# Altium footprint library libreriaPcb.PcbLib: 683 footprints (part 24 of 44)
Each footprint in its own frame and in the unit in brackets; x right, y up, seen from the top. Pads: shape width x height; smd on the part's side, far side on the other; paste and mask are expansions set on the pad; w line width, h text height; cw(c..) or ccw(c..) is an arc to the next point about the centre after c.
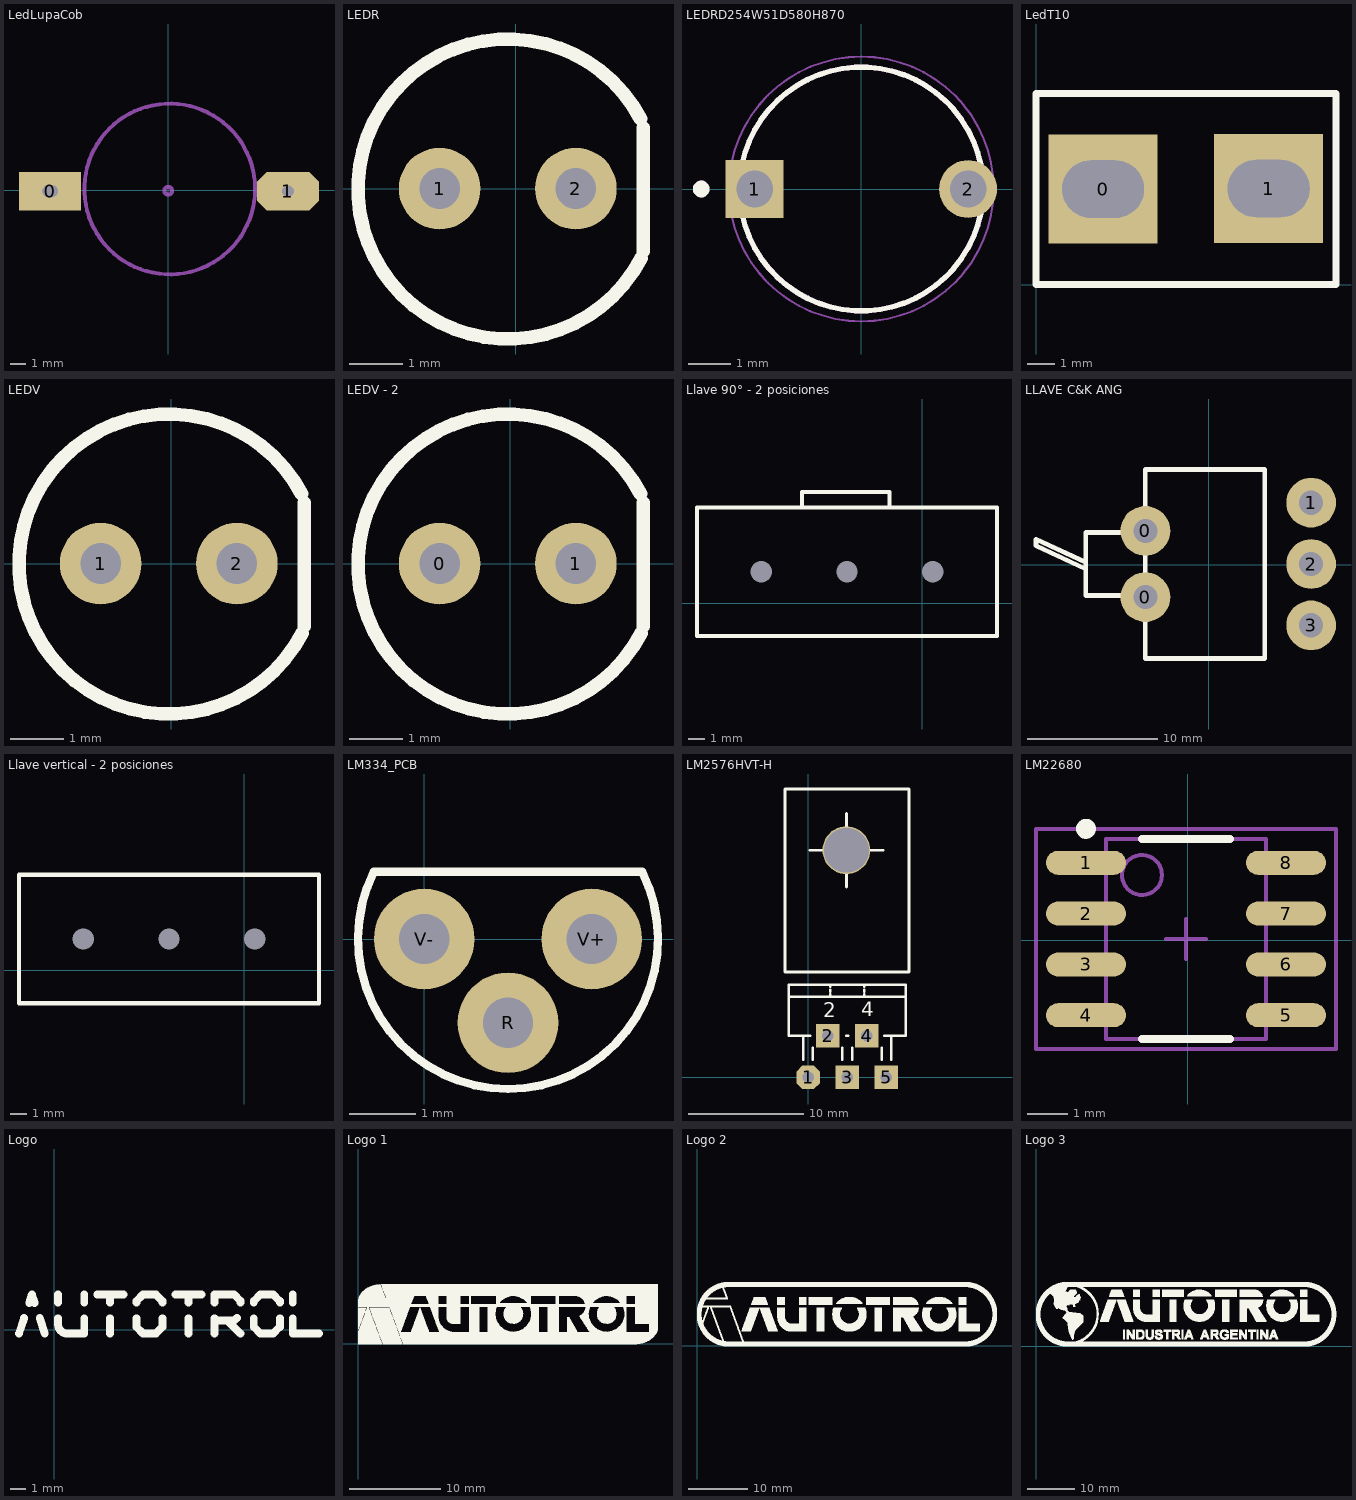
[diagram p23: the footprints below, top view; thin cyan lines are the x and y axes]

## LedLupaCob [mm]
pads (2):
  rect 4x2.5 hole 0.762 slot 1 at 0 deg: 0(-7.62,-0.06)
  oct 4x2.5 hole 0.762: 1(7.7,-0.06)
Mechanical 1:
  circle w0.254: c0.088,0.08 r5.5
  circle w0.254: c-0.008,-0.03 r0.25

## LEDR [mil]
pads (2):
  round 60 hole 30: 1(-56,0) 2(44,0)
Top Overlay:
  lines w10: 91.55,51.35 ccw(c-5.81,-0.26) 91.86,-51.27 ; 93.67,-45.96 93.67,44.8
3D body: height 157.48, standoff 78.74, extent -117,-112 90.61,109
3D body: height 236.22, standoff 39.37, extent -106.34,-100.41 90.42,96.4
3D body: height 78.74, standoff 0, extent -79.62,-23.62 -32.37,23.63
3D body: height 78.74, standoff 0, extent 20.88,-24.12 68.12,23.12

## LEDRD254W51D580H870 [mm]
height 8.7
pads (2):
  rect 1.378x1.378 / inner round 1.378 / far side rect 1.378x1.378 hole 0.87 mask+0.102: 1(-2.54,0)
  round 1.378 hole 0.87 mask+0.102: 2(2.54,0)
Top Overlay:
  circle w0.2: c-3.81,0 r0.1
  circle w0.127: c0,0 r2.9
Mechanical 13:
  circle w0.2: c-3.81,0 r0.1
  circle w0.127: c0,0 r2.9
Mechanical 15:
  circle w0.05: c0,0 r3.15
3D body "step_temp.STEP": height 8.7, standoff -25.4, extent -2.5,-2.9 2.9,2.9

## LedT10 [mm]
pads (2):
  rect 4x4 hole 2.1 slot 3 at 0 deg: 0(2.46,3.5) 1(8.53,3.52)
Top Overlay:
  lines w0.254: 0,0 0,7.01 11,7.01 11,0 0,0

## LEDV [mil]
pads (2):
  round 60 hole 30: 1(-52,0) 2(48,0)
Top Overlay:
  lines w10: 95.55,51.35 ccw(c-1.81,-0.26) 95.86,-51.27 ; 97.67,-45.96 97.67,44.8
3D body: height 157.48, standoff 78.74, extent -113,-112 94.61,109
3D body: height 236.22, standoff 39.37, extent -102.34,-100.41 94.42,96.4
3D body: height 78.74, standoff 0, extent -75.62,-23.62 -28.37,23.63
3D body: height 78.74, standoff 0, extent 24.88,-24.12 72.12,23.12

## LEDV - 2 [mil]
pads (2):
  round 60 hole 30: 0(-52,0) 1(48,0)
Top Overlay:
  lines w10: 95.55,51.35 ccw(c-1.81,-0.26) 95.86,-51.27 ; 97.67,-45.96 97.67,44.8
3D body: height 157.48, standoff 78.74, extent -113,-112 94.61,109
3D body: height 236.22, standoff 39.37, extent -102.34,-100.41 94.42,96.4
3D body: height 78.74, standoff 0, extent -75.62,-23.62 -28.37,23.63
3D body: height 78.74, standoff 0, extent 24.88,-24.12 72.12,23.12

## Llave 90° - 2 posiciones [mil]
pads (3):
  oct 0x0 / inner round 0 / far side oct 110x110 hole 50: 1(-376,73)
  round 0 / inner round 0 / far side round 110 hole 50: 2(-176,73) 3(24,73)
Top Overlay:
  lines w10: -281,223 -281,259 -77,259 -77,223 ; -526,-77 -526,223 174,223 174,-77 -526,-77
3D body: height 472.44, standoff 0, extent -523,-78 174,224
3D body: height 354.33, standoff 118.11, extent -495,257 134,382
3D body: height 314.96, standoff 157.48, extent -282,224 -76,257

## LLAVE C&K ANG [mil]
pads (5):
  round 150 hole 73: 0(-190.78,-97.98) 0(-190.78,102.02) 1(309.22,187.02) 2(309.22,2.02) 3(309.22,-182.98)
Top Overlay:
  lines w14: -370.78,-12.98 -520.78,57.02 -520.78,77.02 -370.78,7.02 ; -190.78,-92.98 -370.78,-92.98 -370.78,97.02 -190.78,97.02 ; -190.78,-282.98 169.22,-282.98 169.22,287.02 -190.78,287.02 -190.78,-282.98
3D body: height 239.21, standoff 0, extent -372.87,-119.52 -18.54,120.17
3D body: height 279.53, standoff 267.72, extent -197.67,-193.34 129.1,196.43
3D body: height 19.68, standoff 0, extent -197.67,-193.34 129.1,196.43
3D body: height 275.59, standoff 7.87, extent -197.67,-193.34 -189.8,196.43
3D body: height 166.95, standoff 72.83, extent -578.89,-105.58 -176.68,117.69
3D body: height 137.8, standoff -39.37, extent 289.58,-202.51 328.87,-163.29
3D body: height 137.8, standoff -39.37, extent 289.57,-17.51 328.86,21.71
3D body: height 137.8, standoff -39.37, extent 289.58,167.49 328.87,206.71
3D body: height 139.61, standoff 100.39, extent 151.74,-202.63 309.22,-163.34
3D body: height 139.61, standoff 100.39, extent 151.74,-17.63 309.22,21.66
3D body: height 139.61, standoff 100.39, extent 151.74,167.37 309.22,206.66
3D body: height 39.37, standoff -39.37, extent -210.42,-117.51 -171.13,-78.29
3D body: height 39.37, standoff -39.37, extent -210.42,82.49 -171.13,121.71
3D body: height 275.59, standoff 7.87, extent -185.86,-283.89 168.47,288.94

## Llave vertical - 2 posiciones [mil]
pads (3):
  oct 0x0 / inner round 0 / far side oct 110x110 hole 50: 1(-376,73)
  round 0 / inner round 0 / far side round 110 hole 50: 2(-176,73) 3(24,73)
Top Overlay:
  lines w10: -526,-77 -526,223 174,223 174,-77 -526,-77
3D body: height 472.44, standoff 0, extent -523,-78 174,224
3D body: height 787.4, standoff 393.7, extent -324.42,-76.3 -26.39,222.32
3D body: height 1176.95, standoff 642.36, extent -249.41,-5.58 73.04,151.59

## LM334_PCB [mil]
pads (3):
  round 60 / inner round 0 / far side round 60 hole 30 paste+0: R(50,-50) V+(100,0) V-(0,0)
Top Overlay:
  lines w5: -30,40 ccw(c50,0) 130,40 -30,40

## LM2576HVT-H [mil]
pads (6):
  oct 80x80 hole 40: 1(0,0)
  rect 80x80 hole 40: 2(66.67,141.67) 3(133.33,0) 4(200,141.67) 5(266.67,0)
  round 163 hole 153: ""(130.33,775.83)
Top Overlay:
  lines w7.87: -66.67,275 333.33,275 ; -16.67,59.05 -16.67,141.67 ; 7.87,141.67 -66.67,141.67 -66.67,316.67 333.33,316.67 333.33,141.67 258.79,141.67 ; 15.75,59.05 15.75,101.5 ; 75,275 75,283.33 ; 75,291.67 75,300 ; 75,308.33 75,316.67 ; 116.67,59.05 116.67,101.5 ; 129.4,141.67 137.27,141.67 ; 150,59.05 150,101.5 ; 191.67,275 191.67,283.33 ; 191.67,291.67 191.67,300 ; 191.67,308.33 191.67,316.67 ; 251.21,59.05 251.21,101.5 ; 283.33,59.05 283.33,141.67
  lines w10: 5.33,775.83 55.33,775.83 ; 130.33,650.83 130.33,700.83 ; 130.33,850.83 130.33,900.83 ; 205.33,775.83 255.33,775.83 ; -80,360 345,360 345,985 -80,985 -80,360
  text "2" at 51.22,205.36 h50
  text "4" at 180.98,208.71 h50

## LM22680 [mm]
pads (8):
  oval 2x0.6 smd: 1(-2.546,1.935) 2(-2.546,0.665) 3(-2.546,-0.605) 4(-2.546,-1.875) 5(2.454,-1.875) 6(2.454,-0.605) 7(2.454,0.665) 8(2.454,1.935)
Top Overlay:
  circle w0.25: c-2.546,2.785 r0.125
  lines w0.2: -1.146,-2.47 1.054,-2.47 ; -1.146,2.53 1.054,2.53
Mechanical 13:
  circle w0.1: c-1.146,1.63 r0.5
  lines w0.1: -2.046,-2.47 -2.046,2.53 1.954,2.53 1.954,-2.47 -2.046,-2.47
Mechanical 15:
  lines w0.1: -0.546,0.03 0.454,0.03 ; -0.046,-0.47 -0.046,0.53 ; -3.796,-2.72 -3.796,2.78 3.704,2.78 3.704,-2.72 -3.796,-2.72
3D body: height 1.68, standoff 0.03, extent -2.046,-2.47 1.954,2.53

## Logo [mm]
Top Overlay:
  lines w0.508: -2.29,-0.25 -1.96,0.766 ; -1.63,1.731 -1.452,2.29 -1.274,1.731 ; -0.944,0.766 -0.614,-0.25 ; 0.25,0.334 0.25,0.741 ; 0.25,1.757 0.25,2.29 ; 0.259,0.359 ccw(c0.834,0.326) 0.834,-0.25 1.952,-0.25 1.952,0.741 ; 1.952,1.757 1.952,2.29 ; 2.79,2.29 4.492,2.29 ; 3.628,-0.25 3.628,0.741 ; 3.628,1.757 3.628,2.29 ; 5.33,0.182 5.762,-0.25 ; 5.33,0.207 5.33,0.741 ; 5.33,1.757 5.33,1.833 ; 5.33,1.858 5.762,2.29 6.575,2.29 ; 5.787,-0.25 6.6,-0.25 7.032,0.182 ; 6.6,2.29 7.032,1.858 ; 7.032,0.207 7.032,0.741 ; 7.032,1.757 7.032,1.833 ; 7.87,2.29 9.572,2.29 ; 8.708,-0.25 8.708,0.741 ; 8.708,1.757 8.708,2.29 ; 10.41,-0.25 10.41,0.741 ; 10.41,0.588 11.68,0.588 11.858,0.766 ; 10.41,1.757 10.41,2.29 11.68,2.29 12.086,1.884 12.086,1.757 ; 11.274,0.563 12.086,-0.25 ; 12.95,0.182 13.382,-0.25 ; 12.95,0.207 12.95,0.741 ; 12.95,1.757 12.95,1.833 ; 12.95,1.858 13.382,2.29 14.195,2.29 ; 13.407,-0.25 14.22,-0.25 14.652,0.182 ; 14.22,2.29 14.652,1.858 ; 14.652,0.207 14.652,0.741 ; 14.652,1.757 14.652,1.833 ; 15.49,0.741 15.49,-0.25 17.192,-0.25 ; 15.49,1.757 15.49,2.29

## Logo 1 [mm]
Top Overlay:
  drawing of 2301 lines, arcs and shapes, not listed

## Logo 2 [mm]
Top Overlay:
  drawing of 3637 lines, arcs and shapes, not listed

## Logo 3 [mm]
Top Overlay:
  drawing of 6632 lines, arcs and shapes, not listed